# EAGLE library part 691334500018 (library Eagle_WR-TBL Pluggable Connector (rev21a))
WR-TBL Serie 3345 - 5.08 mm Double Level Vertical Male PCB Header w. Flanges & Nut Type KIND PROPERTIES Pitch 5.08 mm MATERIAL PROPERTIES Insulator Material PA66 Insulator Flammability Rating UL94 V-0 Contact Material Brass Contact Plating Tin GENERAL INFORMATION Operating Temperature -40 up to +105 °C Compliance RoHS ELECTRICAL PROPERTIES IR UL 20 A Working Voltage [UL] 300 V (AC) Withstanding Voltage [cULus] 1600 V (AC) Contact Resistance [cULus] 20 mΩ CERTIFICATION cULus Approval E315414 <https://www.we-online.com/catalog/media/o33286v209%20Family_WR-TBL_6913345000xx.jpg> Details see: https://www.we-online.com/catalog/en/TBL_5_08_3345_DOUBLE_LEVEL_VERTICAL_MALE_PCB_HEADER_W_FLANGES_AND_NUT_6913345000XX/ Updated by Ella Wu 2019-12-25 2019(C) Wurth Elektronik
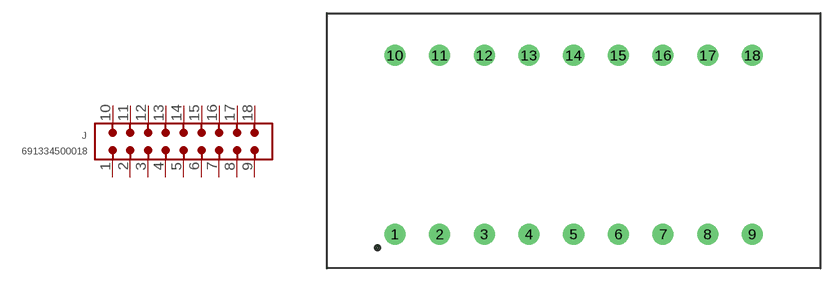
[diagram p292: symbol with the pads of 691334500018; footprint 691334500018]

Designator prefix J

## 691334500018 (DATASHEET-URL: https://www.we-online.com/catalog/datasheet/691334500018.pdf; IR-UL: 20A; MOUNT: THT; PART-NUMBER: 691334500018; PINS: 18; PITCH: 5.08mm; TYPE: Double Level Vertical; VALUE: 691334500018; WORKING-VOLTAGE-UL: 300V (AC))  [691334500018]
1  1  pas
2  2  pas
3  3  pas
4  4  pas
5  5  pas
6  6  pas
7  7  pas
8  8  pas
9  9  pas
10  10  pas
11  11  pas
12  12  pas
13  13  pas
14  14  pas
15  15  pas
16  16  pas
17  17  pas
18  18  pas

## Footprint 691334500018 (pad centres in mm)
WR-TBL Serie 3345 - 5.08 mm Double Level Vertical Male PCB Header w. Flanges & Nut Type Max Height = 22mm , Pitch 5.08mm , 16pins
drill 1.6: 1 -20.32,-10.16; 2 -15.24,-10.16; 3 -10.16,-10.16; 4 -5.08,-10.16; 5 0,-10.16; 6 5.08,-10.16; 7 10.16,-10.16; 8 15.24,-10.16; 9 20.32,-10.16; 10 -20.32,10.16; 11 -15.24,10.16; 12 -10.16,10.16; 13 -5.08,10.16; 14 0,10.16; 15 5.08,10.16; 16 10.16,10.16; 17 15.24,10.16; 18 20.32,10.16